# Altium schematic symbol library Capacitor_35mm_diameter.SchLib: 1 symbol
Pins are listed as number, name and electrical type; pins without a type are passive.

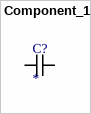
[diagram p0: symbol Component_1]

## Component_1
designator C?
diameter 35mm
footprint PCBComponent_1
pins: 1, 2